# EAGLE library part DUMMY_S0IC8 (library Shohei)
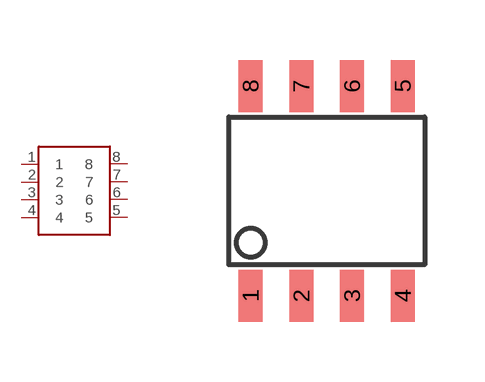
[diagram p12: symbol with the pads of SOIC8; footprint SOIC8]

Designator prefix -

## DUMMY_S0IC8  [SOIC8]
1  1
2  2
3  3
4  4
5  5
6  6
7  7
8  8

## Footprint SOIC8 (pad centres in mm)
smd 0.6 x 1.3: 1 -1.905,-2.625; 2 -0.635,-2.625; 3 0.635,-2.625; 4 1.905,-2.625; 5 1.905,2.625; 6 0.635,2.625; 7 -0.635,2.625; 8 -1.905,2.625